# Altium schematic symbol library IND-SM-0402-HF-10nH.Schlib: 1 symbol
Pins are listed as number, name and electrical type; pins without a type are passive.

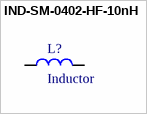
[diagram p0: symbol IND-SM-0402-HF-10nH]

## IND-SM-0402-HF-10nH
designator L?, comment Inductor
IND SM 0402 CHIP HF 10nH 5%
pins: 1, 2